# EAGLE library part TPS54233 (library texas-instruments)
2A 28V step down swift dc/dc switching regulator
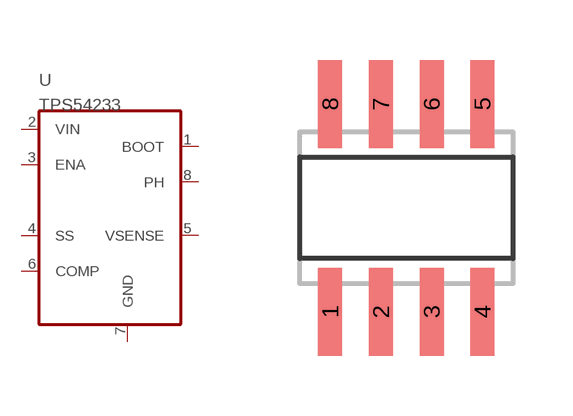
[diagram p22: symbol with the pads of SO08; footprint SO08]

Designator prefix U

## TPS54233 (DIGIKEY: 296-23902-1-ND; P1I: o)  [SO08]
1  BOOT  in
2  VIN  in
3  ENA
4  SS
5  VSENSE  in
6  COMP
7  GND  pwr
8  PH  out

## Footprint SO08 (pad centres in mm)
SMALL OUTLINE INTEGRATED CIRCUIT body 3.9 mm/JEDEC MS-012AA
smd 0.6 x 2.2: 1 -1.905,-2.6; 2 -0.635,-2.6; 3 0.635,-2.6; 4 1.905,-2.6; 5 1.905,2.6; 6 0.635,2.6; 7 -0.635,2.6; 8 -1.905,2.6